# Altium footprint library con-molex-micro-fit-3_0.PCBLIB: 194 footprints (part 12 of 13)
Each footprint in its own frame and in the unit in brackets; x right, y up, seen from the top. Pads: shape width x height; smd on the part's side, far side on the other; paste and mask are expansions set on the pad; w line width, h text height; cw(c..) or ccw(c..) is an arc to the next point about the centre after c.
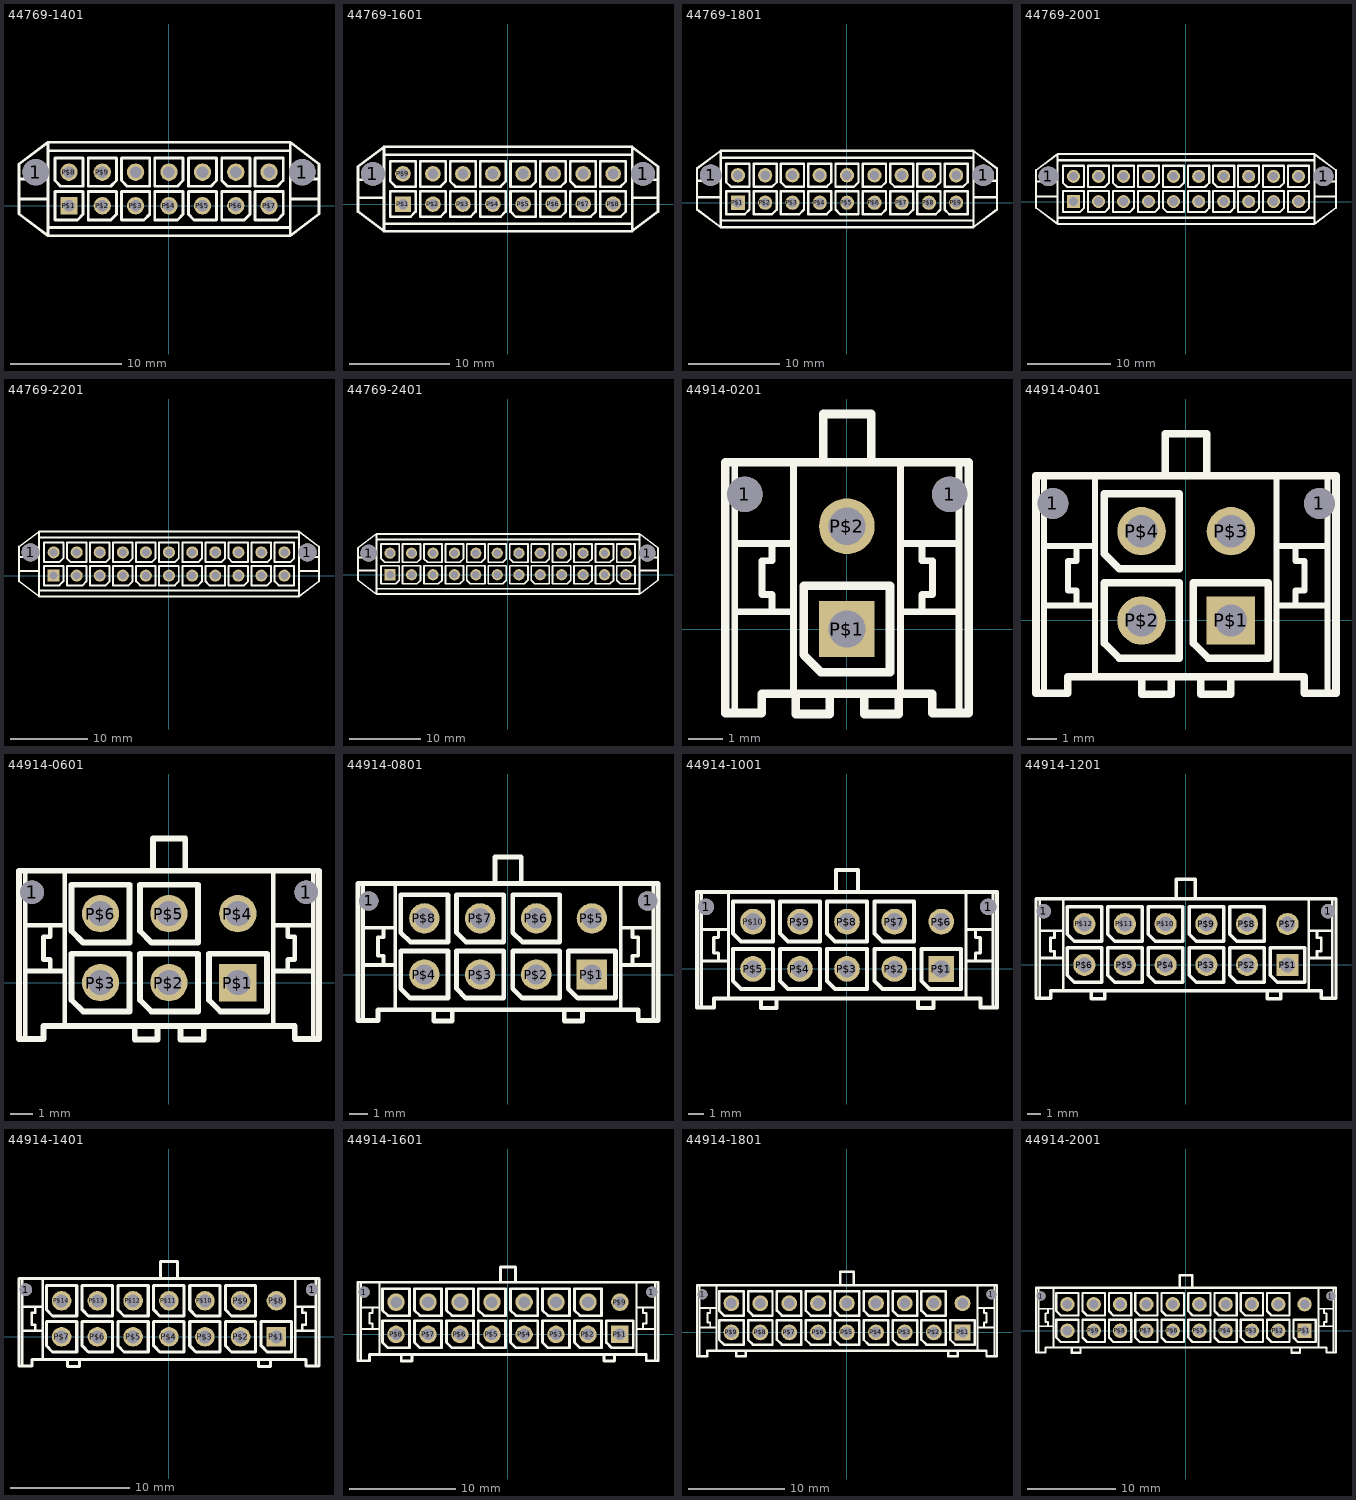
[diagram p11: the footprints below, top view; thin cyan lines are the x and y axes]

## 44769-1401 [mil]
pads (16):
  round 93 hole 93: 1(-472.44,119) 1(473,119)
  rect 61.5x61.5 hole 41: P$1(-354.33,0)
  round 61.5 hole 41: P$2(-236.22,0) P$3(-118.11,0) P$4(0,0) P$5(119,0) P$6(237,0) P$7(355,0) P$8(-354.33,119) P$9(-236.22,119) P$10(-118.11,119) P$11(0,119) P$12(119,119) P$13(237,119) P$14(355,119)
Top Overlay:
  lines w10: -531.5,24 -531.5,-29.53 -429.13,-106.3 ; -531.5,24 -531.5,95 ; -531.5,24 -429.13,24 ; -531.5,95 -531.5,148 -429.13,225 ; -531.5,95 -429.13,95 ; -429.13,-106.3 430,-106.3 ; -429.13,-106.3 -429.13,-76.77 ; -429.13,-76.77 -429.13,24 ; -429.13,-76.77 430,-76.77 ; -429.13,24 -429.13,95 ; -429.13,95 -429.13,195 ; -429.13,195 -429.13,225 ; -429.13,195 430,195 ; -429.13,225 430,225 ; 430,-106.3 532,-29.53 532,24 ; 430,-106.3 430,-76.77 ; 430,-76.77 430,24 ; 430,24 430,95 ; 430,24 532,24 ; 430,95 430,195 ; 430,95 532,95 ; 430,195 430,225 ; 430,225 532,148 532,95 ; 532,24 532,95 ; -404.33,-50 -404.33,50 -304.33,50 -304.33,-30 -324.33,-50 -404.33,-50 ; -404.33,89 -404.33,169 -304.33,169 -304.33,69 -384.33,69 -404.33,89 ; -286.22,-50 -286.22,50 -186.22,50 -186.22,-30 -206.22,-50 -286.22,-50 ; -286.22,69 -286.22,169 -186.22,169 -186.22,89 -206.22,69 -286.22,69 ; -168.11,-50 -168.11,50 -68.11,50 -68.11,-30 -88.11,-50 -168.11,-50 ; -168.11,89 -168.11,169 -68.11,169 -68.11,69 -148.11,69 -168.11,89 ; -50,-50 -50,50 50,50 50,-30 30,-50 -50,-50 ; -50,69 -50,169 50,169 50,89 30,69 -50,69 ; 69,-30 69,50 169,50 169,-50 89,-50 69,-30 ; 69,69 69,169 169,169 169,89 149,69 69,69 ; 187,-50 187,50 287,50 287,-30 267,-50 187,-50 ; 187,89 187,169 287,169 287,69 207,69 187,89 ; 305,-50 305,50 405,50 405,-30 385,-50 305,-50 ; 305,69 305,169 405,169 405,89 385,69 305,69

## 44769-1601 [mil]
pads (18):
  round 93 hole 93: 1(-531.5,119) 1(532,119)
  rect 61.5x61.5 hole 41: P$1(-413.39,0)
  round 61.5 hole 41: P$2(-295.28,0) P$3(-177.17,0) P$4(-59.06,0) P$5(60,0) P$6(178,0) P$7(296,0) P$8(414,0) P$9(-413.39,119) P$10(-295.28,119) P$11(-177.17,119) P$12(-59.06,119) P$13(60,119) P$14(178,119) P$15(296,119) P$16(414,119)
Top Overlay:
  lines w10: -590.55,24 -590.55,-29.53 -488.19,-106.3 ; -590.55,24 -590.55,95 ; -590.55,24 -488.19,24 ; -590.55,95 -590.55,148 -488.19,225 ; -590.55,95 -488.19,95 ; -488.19,-106.3 489,-106.3 ; -488.19,-106.3 -488.19,-76.77 ; -488.19,-76.77 -488.19,24 ; -488.19,-76.77 489,-76.77 ; -488.19,24 -488.19,95 ; -488.19,95 -488.19,195 ; -488.19,195 -488.19,225 ; -488.19,195 489,195 ; -488.19,225 489,225 ; 489,-106.3 591,-29.53 591,24 ; 489,-106.3 489,-76.77 ; 489,-76.77 489,24 ; 489,24 489,95 ; 489,24 591,24 ; 489,95 489,195 ; 489,95 591,95 ; 489,195 489,225 ; 489,225 591,148 591,95 ; 591,24 591,95 ; -463.39,-50 -463.39,50 -363.39,50 -363.39,-30 -383.39,-50 -463.39,-50 ; -463.39,89 -463.39,169 -363.39,169 -363.39,69 -443.39,69 -463.39,89 ; -345.28,-50 -345.28,50 -245.28,50 -245.28,-30 -265.28,-50 -345.28,-50 ; -345.28,69 -345.28,169 -245.28,169 -245.28,89 -265.28,69 -345.28,69 ; -227.17,-50 -227.17,50 -127.17,50 -127.17,-30 -147.17,-50 -227.17,-50 ; -227.17,89 -227.17,169 -127.17,169 -127.17,69 -207.17,69 -227.17,89 ; -109.06,-50 -109.06,50 -9.06,50 -9.06,-30 -29.06,-50 -109.06,-50 ; -109.06,69 -109.06,169 -9.06,169 -9.06,89 -29.06,69 -109.06,69 ; 10,-30 10,50 110,50 110,-50 30,-50 10,-30 ; 10,69 10,169 110,169 110,89 90,69 10,69 ; 128,-50 128,50 228,50 228,-30 208,-50 128,-50 ; 128,69 128,169 228,169 228,89 208,69 128,69 ; 246,-50 246,50 346,50 346,-30 326,-50 246,-50 ; 246,89 246,169 346,169 346,69 266,69 246,89 ; 364,-50 364,50 464,50 464,-30 444,-50 364,-50 ; 364,69 364,169 464,169 464,89 444,69 364,69

## 44769-1801 [mil]
pads (20):
  round 93 hole 93: 1(-590.55,119) 1(591,119)
  rect 61.5x61.5 hole 41: P$1(-472.44,0)
  round 61.5 hole 41: P$2(-354.33,0) P$3(-236.22,0) P$4(-118.11,0) P$5(0,0) P$6(119,0) P$7(237,0) P$8(355,0) P$9(473,0) P$10(-472.44,119) P$11(-354.33,119) P$12(-236.22,119) P$13(-118.11,119) P$14(0,119) P$15(119,119) P$16(237,119) P$17(355,119) P$18(473,119)
Top Overlay:
  lines w10: -649.61,24 -649.61,-29.53 -547.24,-106.3 ; -649.61,24 -649.61,95 ; -649.61,24 -547.24,24 ; -649.61,95 -649.61,148 -547.24,225 ; -649.61,95 -547.24,95 ; -547.24,-106.3 548,-106.3 ; -547.24,-106.3 -547.24,-76.77 ; -547.24,-76.77 -547.24,24 ; -547.24,-76.77 548,-76.77 ; -547.24,24 -547.24,95 ; -547.24,95 -547.24,195 ; -547.24,195 -547.24,225 ; -547.24,195 548,195 ; -547.24,225 548,225 ; 548,-106.3 650,-29.53 650,24 ; 548,-106.3 548,-76.77 ; 548,-76.77 548,24 ; 548,24 548,95 ; 548,24 650,24 ; 548,95 548,195 ; 548,95 650,95 ; 548,195 548,225 ; 548,225 650,148 650,95 ; 650,24 650,95 ; -522.44,-50 -522.44,50 -422.44,50 -422.44,-30 -442.44,-50 -522.44,-50 ; -522.44,89 -522.44,169 -422.44,169 -422.44,69 -502.44,69 -522.44,89 ; -404.33,-50 -404.33,50 -304.33,50 -304.33,-30 -324.33,-50 -404.33,-50 ; -404.33,69 -404.33,169 -304.33,169 -304.33,89 -324.33,69 -404.33,69 ; -286.22,-50 -286.22,50 -186.22,50 -186.22,-30 -206.22,-50 -286.22,-50 ; -286.22,89 -286.22,169 -186.22,169 -186.22,69 -266.22,69 -286.22,89 ; -168.11,-50 -168.11,50 -68.11,50 -68.11,-30 -88.11,-50 -168.11,-50 ; -168.11,69 -168.11,169 -68.11,169 -68.11,89 -88.11,69 -168.11,69 ; -50,-30 -50,50 50,50 50,-50 -30,-50 -50,-30 ; -50,69 -50,169 50,169 50,89 30,69 -50,69 ; 69,-50 69,50 169,50 169,-30 149,-50 69,-50 ; 69,69 69,169 169,169 169,89 149,69 69,69 ; 187,-50 187,50 287,50 287,-30 267,-50 187,-50 ; 187,89 187,169 287,169 287,69 207,69 187,89 ; 305,-50 305,50 405,50 405,-30 385,-50 305,-50 ; 305,69 305,169 405,169 405,89 385,69 305,69 ; 423,-30 423,50 523,50 523,-50 443,-50 423,-30 ; 423,69 423,169 523,169 523,89 503,69 423,69

## 44769-2001 [mil]
pads (22):
  round 93 hole 93: 1(-649.61,119) 1(650,119)
  rect 61.5x61.5 hole 41: P$1(-531.5,0)
  round 61.5 hole 41: P$2(-413.39,0) P$3(-295.28,0) P$4(-177.17,0) P$5(-59.06,0) P$6(60,0) P$7(178,0) P$8(296,0) P$9(414,0) P$10(532,0) P$11(-531.5,119) P$12(-413.39,119) P$13(-295.28,119) P$14(-177.17,119) P$15(-59.06,119) P$16(60,119) P$17(178,119) P$18(296,119) P$19(414,119) P$20(532,119)
Top Overlay:
  lines w10: -708.66,24 -708.66,-29.53 -606.3,-106.3 ; -708.66,24 -708.66,95 ; -708.66,24 -606.3,24 ; -708.66,95 -708.66,148 -606.3,225 ; -708.66,95 -606.3,95 ; -606.3,-106.3 607,-106.3 ; -606.3,-106.3 -606.3,-76.77 ; -606.3,-76.77 -606.3,24 ; -606.3,-76.77 607,-76.77 ; -606.3,24 -606.3,95 ; -606.3,95 -606.3,195 ; -606.3,195 -606.3,225 ; -606.3,195 607,195 ; -606.3,225 607,225 ; 607,-106.3 709,-29.53 709,24 ; 607,-106.3 607,-76.77 ; 607,-76.77 607,24 ; 607,24 607,95 ; 607,24 709,24 ; 607,95 607,195 ; 607,95 709,95 ; 607,195 607,225 ; 607,225 709,148 709,95 ; 709,24 709,95 ; -581.5,-50 -581.5,50 -481.5,50 -481.5,-30 -501.5,-50 -581.5,-50 ; -581.5,89 -581.5,169 -481.5,169 -481.5,69 -561.5,69 -581.5,89 ; -463.39,-50 -463.39,50 -363.39,50 -363.39,-30 -383.39,-50 -463.39,-50 ; -463.39,69 -463.39,169 -363.39,169 -363.39,89 -383.39,69 -463.39,69 ; -345.28,-50 -345.28,50 -245.28,50 -245.28,-30 -265.28,-50 -345.28,-50 ; -345.28,89 -345.28,169 -245.28,169 -245.28,69 -325.28,69 -345.28,89 ; -227.17,-50 -227.17,50 -127.17,50 -127.17,-30 -147.17,-50 -227.17,-50 ; -227.17,69 -227.17,169 -127.17,169 -127.17,89 -147.17,69 -227.17,69 ; -109.06,-30 -109.06,50 -9.06,50 -9.06,-50 -89.06,-50 -109.06,-30 ; -109.06,69 -109.06,169 -9.06,169 -9.06,89 -29.06,69 -109.06,69 ; 10,-50 10,50 110,50 110,-30 90,-50 10,-50 ; 10,69 10,169 110,169 110,89 90,69 10,69 ; 128,-50 128,50 228,50 228,-30 208,-50 128,-50 ; 128,89 128,169 228,169 228,69 148,69 128,89 ; 246,-50 246,50 346,50 346,-30 326,-50 246,-50 ; 246,69 246,169 346,169 346,89 326,69 246,69 ; 364,-50 364,50 464,50 464,-30 444,-50 364,-50 ; 364,69 364,169 464,169 464,89 444,69 364,69 ; 482,-50 482,50 582,50 582,-30 562,-50 482,-50 ; 482,69 482,169 582,169 582,89 562,69 482,69

## 44769-2201 [mil]
pads (24):
  round 93 hole 93: 1(-708.66,119) 1(709,119)
  rect 61.5x61.5 hole 41: P$1(-590.55,0)
  round 61.5 hole 41: P$2(-472.44,0) P$3(-354.33,0) P$4(-236.22,0) P$5(-118.11,0) P$6(0,0) P$7(119,0) P$8(237,0) P$9(355,0) P$10(473,0) P$11(591,0) P$12(-590.55,119) P$13(-472.44,119) P$14(-354.33,119) P$15(-236.22,119) P$16(-118.11,119) P$17(0,119) P$18(119,119) P$19(237,119) P$20(355,119) P$21(473,119) P$22(591,119)
Top Overlay:
  lines w10: -767.72,24 -767.72,-29.53 -665.35,-106.3 ; -767.72,24 -767.72,95 ; -767.72,24 -665.35,24 ; -767.72,95 -767.72,148 -665.35,225 ; -767.72,95 -665.35,95 ; -665.35,-106.3 666,-106.3 ; -665.35,-106.3 -665.35,-76.77 ; -665.35,-76.77 -665.35,24 ; -665.35,-76.77 666,-76.77 ; -665.35,24 -665.35,95 ; -665.35,95 -665.35,195 ; -665.35,195 -665.35,225 ; -665.35,195 666,195 ; -665.35,225 666,225 ; 666,-106.3 768,-29.53 768,24 ; 666,-106.3 666,-76.77 ; 666,-76.77 666,24 ; 666,24 666,95 ; 666,24 768,24 ; 666,95 666,195 ; 666,95 768,95 ; 666,195 666,225 ; 666,225 768,148 768,95 ; 768,24 768,95 ; -640.55,-50 -640.55,50 -540.55,50 -540.55,-30 -560.55,-50 -640.55,-50 ; -640.55,69 -640.55,169 -540.55,169 -540.55,89 -560.55,69 -640.55,69 ; -522.44,-50 -522.44,50 -422.44,50 -422.44,-30 -442.44,-50 -522.44,-50 ; -522.44,89 -522.44,169 -422.44,169 -422.44,69 -502.44,69 -522.44,89 ; -404.33,-50 -404.33,50 -304.33,50 -304.33,-30 -324.33,-50 -404.33,-50 ; -404.33,69 -404.33,169 -304.33,169 -304.33,89 -324.33,69 -404.33,69 ; -286.22,-50 -286.22,50 -186.22,50 -186.22,-30 -206.22,-50 -286.22,-50 ; -286.22,69 -286.22,169 -186.22,169 -186.22,89 -206.22,69 -286.22,69 ; -168.11,-30 -168.11,50 -68.11,50 -68.11,-50 -148.11,-50 -168.11,-30 ; -168.11,69 -168.11,169 -68.11,169 -68.11,89 -88.11,69 -168.11,69 ; -50,-50 -50,50 50,50 50,-30 30,-50 -50,-50 ; -50,69 -50,169 50,169 50,89 30,69 -50,69 ; 69,-50 69,50 169,50 169,-30 149,-50 69,-50 ; 69,69 69,169 169,169 169,89 149,69 69,69 ; 187,-30 187,50 287,50 287,-50 207,-50 187,-30 ; 187,69 187,169 287,169 287,89 267,69 187,69 ; 305,-50 305,50 405,50 405,-30 385,-50 305,-50 ; 305,89 305,169 405,169 405,69 325,69 305,89 ; 423,-50 423,50 523,50 523,-30 503,-50 423,-50 ; 423,69 423,169 523,169 523,89 503,69 423,69 ; 541,-30 541,50 641,50 641,-50 561,-50 541,-30 ; 541,69 541,169 641,169 641,89 621,69 541,69

## 44769-2401 [mil]
pads (26):
  round 93 hole 93: 1(-767.72,119) 1(768,119)
  rect 61.5x61.5 hole 41: P$1(-649.61,0)
  round 61.5 hole 41: P$2(-531.5,0) P$3(-413.39,0) P$4(-295.28,0) P$5(-177.17,0) P$6(-59.06,0) P$7(60,0) P$8(178,0) P$9(296,0) P$10(414,0) P$11(532,0) P$12(650,0) P$13(-649.61,119) P$14(-531.5,119) P$15(-413.39,119) P$16(-295.28,119) P$17(-177.17,119) P$18(-59.06,119) P$19(60,119) P$20(178,119) P$21(296,119) P$22(414,119) P$23(532,119) P$24(650,119)
Top Overlay:
  lines w10: -826.77,24 -826.77,-29.53 -724.41,-106.3 ; -826.77,24 -826.77,95 ; -826.77,24 -724.41,24 ; -826.77,95 -826.77,148 -724.41,225 ; -826.77,95 -724.41,95 ; -724.41,-106.3 725,-106.3 ; -724.41,-106.3 -724.41,-76.77 ; -724.41,-76.77 -724.41,24 ; -724.41,-76.77 725,-76.77 ; -724.41,24 -724.41,95 ; -724.41,95 -724.41,195 ; -724.41,195 -724.41,225 ; -724.41,195 725,195 ; -724.41,225 725,225 ; 725,-106.3 827,-29.53 827,24 ; 725,-106.3 725,-76.77 ; 725,-76.77 725,24 ; 725,24 725,95 ; 725,24 827,24 ; 725,95 725,195 ; 725,95 827,95 ; 725,195 725,225 ; 725,225 827,148 827,95 ; 827,24 827,95 ; -699.61,-50 -699.61,50 -599.61,50 -599.61,-30 -619.61,-50 -699.61,-50 ; -699.61,89 -699.61,169 -599.61,169 -599.61,69 -679.61,69 -699.61,89 ; -581.5,-50 -581.5,50 -481.5,50 -481.5,-30 -501.5,-50 -581.5,-50 ; -581.5,69 -581.5,169 -481.5,169 -481.5,89 -501.5,69 -581.5,69 ; -463.39,-50 -463.39,50 -363.39,50 -363.39,-30 -383.39,-50 -463.39,-50 ; -463.39,89 -463.39,169 -363.39,169 -363.39,69 -443.39,69 -463.39,89 ; -345.28,-50 -345.28,50 -245.28,50 -245.28,-30 -265.28,-50 -345.28,-50 ; -345.28,69 -345.28,169 -245.28,169 -245.28,89 -265.28,69 -345.28,69 ; -227.17,-30 -227.17,50 -127.17,50 -127.17,-50 -207.17,-50 -227.17,-30 ; -227.17,69 -227.17,169 -127.17,169 -127.17,89 -147.17,69 -227.17,69 ; -109.06,-50 -109.06,50 -9.06,50 -9.06,-30 -29.06,-50 -109.06,-50 ; -109.06,69 -109.06,169 -9.06,169 -9.06,89 -29.06,69 -109.06,69 ; 10,-50 10,50 110,50 110,-30 90,-50 10,-50 ; 10,89 10,169 110,169 110,69 30,69 10,89 ; 128,-30 128,50 228,50 228,-50 148,-50 128,-30 ; 128,69 128,169 228,169 228,89 208,69 128,69 ; 246,-50 246,50 346,50 346,-30 326,-50 246,-50 ; 246,69 246,169 346,169 346,89 326,69 246,69 ; 364,-50 364,50 464,50 464,-30 444,-50 364,-50 ; 364,69 364,169 464,169 464,89 444,69 364,69 ; 482,-50 482,50 582,50 582,-30 562,-50 482,-50 ; 482,69 482,169 582,169 582,89 562,69 482,69 ; 600,-30 600,50 700,50 700,-50 620,-50 600,-30 ; 600,69 600,169 700,169 700,89 680,69 600,69

## 44914-0201 [mil]
pads (4):
  round 41 hole 41: 1(-118.11,156) 1(119,156)
  rect 64.5x64.5 hole 43: P$1(0,0)
  round 64.5 hole 43: P$2(0,119)
Top Overlay:
  lines w8: -129.92,-97.24 -129.92,20 ; -129.92,193 -129.92,99 ; -61.81,-74.8 -61.81,20 ; -61.81,193 -61.81,99 ; 62,-74.8 62,20 ; 62,193 62,99 ; 130,-97.24 130,20 ; 130,193 130,99 ; -129.92,20 -129.92,99 ; -129.92,20 -86.61,20 ; -129.92,99 -86.61,99 ; -86.61,20 -61.81,20 ; -86.61,20 -86.61,40 -98.43,40 -98.43,79 -86.61,79 -86.61,99 ; -86.61,99 -61.81,99 ; -61.81,20 -61.81,99 ; 62,20 62,99 ; 62,20 87,20 ; 62,99 87,99 ; 87,20 130,20 ; 87,20 87,40 99,40 99,79 87,79 87,99 ; 87,99 130,99 ; 130,20 130,99
  lines w10: -59.06,-74.8 -19.68,-74.8 ; -59.06,-74.8 -61.81,-74.8 -98.43,-74.8 -98.43,-97.24 -129.92,-97.24 -140.75,-97.24 -140.75,193 -129.92,193 -61.81,193 -27.56,193 ; -59.06,-74.8 -59.06,-98.43 -19.68,-98.43 -19.68,-74.8 ; -27.56,193 28,193 ; -27.56,193 -27.56,249 28,249 28,193 ; -19.68,-74.8 20,-74.8 ; 20,-74.8 60,-74.8 ; 20,-74.8 20,-98.43 60,-98.43 60,-74.8 ; 28,193 62,193 130,193 141,193 141,-97.24 130,-97.24 99,-97.24 99,-74.8 62,-74.8 60,-74.8 ; -50,-30 -50,50 50,50 50,-50 -30,-50 -50,-30
Bottom Overlay:
  lines w10: -50,69 -50,169 50,169 50,89 30,69 -50,69

## 44914-0401 [mil]
pads (6):
  round 41 hole 41: 1(-177.17,156) 1(178,156)
  rect 64.5x64.5 hole 43: P$1(60,0)
  round 64.5 hole 43: P$2(-59.06,0) P$3(60,119) P$4(-59.06,119)
Top Overlay:
  lines w8: -188.98,-97.24 -188.98,20 ; -188.98,193 -188.98,99 ; -120.87,-74.8 -120.87,20 ; -120.87,193 -120.87,99 ; 121,-74.8 121,20 ; 121,193 121,99 ; 189,-97.24 189,20 ; 189,193 189,99 ; -188.98,20 -188.98,99 ; -188.98,20 -145.67,20 ; -188.98,99 -145.67,99 ; -145.67,20 -120.87,20 ; -145.67,20 -145.67,40 -157.48,40 -157.48,79 -145.67,79 -145.67,99 ; -145.67,99 -120.87,99 ; -120.87,20 -120.87,99 ; 121,20 121,99 ; 121,20 146,20 ; 121,99 146,99 ; 146,20 189,20 ; 146,20 146,40 158,40 158,79 146,79 146,99 ; 146,99 189,99 ; 189,20 189,99
  lines w10: -59.06,-74.8 -19.68,-74.8 ; -59.06,-74.8 -120.87,-74.8 -157.48,-74.8 -157.48,-97.24 -188.98,-97.24 -199.8,-97.24 -199.8,193 -188.98,193 -120.87,193 -27.56,193 ; -59.06,-74.8 -59.06,-98.43 -19.68,-98.43 -19.68,-74.8 ; -27.56,193 28,193 ; -27.56,193 -27.56,249 28,249 28,193 ; -19.68,-74.8 20,-74.8 ; 20,-74.8 60,-74.8 ; 20,-74.8 20,-98.43 60,-98.43 60,-74.8 ; 28,193 121,193 189,193 200,193 200,-97.24 189,-97.24 158,-97.24 158,-74.8 121,-74.8 60,-74.8 ; -109.06,-30 -109.06,50 -9.06,50 -9.06,-50 -89.06,-50 -109.06,-30 ; -109.06,89 -109.06,169 -9.06,169 -9.06,69 -89.06,69 -109.06,89 ; 10,-30 10,50 110,50 110,-50 30,-50 10,-30
Bottom Overlay:
  lines w10: 10,69 10,169 110,169 110,89 90,69 10,69

## 44914-0601 [mil]
pads (8):
  round 41 hole 41: 1(-236.22,156) 1(237,156)
  rect 64.5x64.5 hole 43: P$1(119,0)
  round 64.5 hole 43: P$2(0,0) P$3(-118.11,0) P$4(119,119) P$5(0,119) P$6(-118.11,119)
Top Overlay:
  lines w8: -248.03,-97.24 -248.03,-66.93 -248.03,-39.37 -248.03,20 ; -248.03,193 -248.03,158 -248.03,99 ; -179.92,-74.8 -179.92,-39.37 -179.92,20 ; -179.92,193 -179.92,158 -179.92,99 ; 180,-74.8 180,-39.37 180,20 ; 180,193 180,158 180,99 ; 249,-97.24 249,-66.93 249,-39.37 249,20 ; 249,193 249,158 249,99 ; -248.03,20 -248.03,99 ; -248.03,20 -204.72,20 ; -248.03,99 -204.72,99 ; -204.72,20 -179.92,20 ; -204.72,20 -204.72,40 -216.54,40 -216.54,79 -204.72,79 -204.72,99 ; -204.72,99 -179.92,99 ; -179.92,20 -179.92,99 ; 180,20 180,99 ; 180,20 205,20 ; 180,99 205,99 ; 205,20 249,20 ; 205,20 205,40 217,40 217,79 205,79 205,99 ; 205,99 249,99 ; 249,20 249,99
  lines w10: -59.06,-74.8 -19.68,-74.8 ; -59.06,-74.8 -179.92,-74.8 -216.54,-74.8 -216.54,-97.24 -248.03,-97.24 -258.86,-97.24 -258.86,193 -248.03,193 -179.92,193 -27.56,193 ; -59.06,-74.8 -59.06,-98.43 -19.68,-98.43 -19.68,-74.8 ; -27.56,193 28,193 ; -27.56,193 -27.56,249 28,249 28,193 ; -19.68,-74.8 20,-74.8 ; 20,-74.8 60,-74.8 ; 20,-74.8 20,-98.43 60,-98.43 60,-74.8 ; 28,193 180,193 249,193 259,193 259,-97.24 249,-97.24 217,-97.24 217,-74.8 180,-74.8 60,-74.8 ; -168.11,-30 -168.11,50 -68.11,50 -68.11,-50 -148.11,-50 -168.11,-30 ; -168.11,89 -168.11,169 -68.11,169 -68.11,69 -148.11,69 -168.11,89 ; -50,-30 -50,50 50,50 50,-50 -30,-50 -50,-30 ; -50,89 -50,169 50,169 50,69 -30,69 -50,89 ; 69,-30 69,50 169,50 169,-50 89,-50 69,-30
Bottom Overlay:
  lines w10: 69,69 69,169 169,169 169,89 149,69 69,69

## 44914-0801 [mil]
pads (10):
  round 41 hole 41: 1(-295.28,156) 1(296,156)
  rect 64.5x64.5 hole 43: P$1(178,0)
  round 64.5 hole 43: P$2(60,0) P$3(-59.06,0) P$4(-177.17,0) P$5(178,119) P$6(60,119) P$7(-59.06,119) P$8(-177.17,119)
Top Overlay:
  lines w8: -307.09,-97.24 -307.09,20 ; -307.09,193 -307.09,99 ; -238.98,-74.8 -238.98,20 ; -238.98,193 -238.98,99 ; 239,-74.8 239,20 ; 239,193 239,99 ; 308,-97.24 308,20 ; 308,193 308,99 ; -307.09,20 -307.09,99 ; -307.09,20 -263.78,20 ; -307.09,99 -263.78,99 ; -263.78,20 -238.98,20 ; -263.78,20 -263.78,40 -275.59,40 -275.59,79 -263.78,79 -263.78,99 ; -263.78,99 -238.98,99 ; -238.98,20 -238.98,99 ; 239,20 239,99 ; 239,20 264,20 ; 239,99 264,99 ; 264,20 308,20 ; 264,20 264,40 276,40 276,79 264,79 264,99 ; 264,99 308,99 ; 308,20 308,99
  lines w10: -157.48,-74.8 -118.11,-74.8 ; -157.48,-74.8 -238.98,-74.8 -275.59,-74.8 -275.59,-97.24 -307.09,-97.24 -317.91,-97.24 -317.91,193 -307.09,193 -238.98,193 -27.56,193 ; -157.48,-74.8 -157.48,-98.43 -118.11,-98.43 -118.11,-74.8 ; -118.11,-74.8 119,-74.8 ; -27.56,193 28,193 ; -27.56,193 -27.56,249 28,249 28,193 ; 28,193 239,193 308,193 318,193 318,-97.24 308,-97.24 276,-97.24 276,-74.8 239,-74.8 158,-74.8 ; 119,-74.8 158,-74.8 ; 119,-74.8 119,-98.43 158,-98.43 158,-74.8 ; -227.17,-30 -227.17,50 -127.17,50 -127.17,-50 -207.17,-50 -227.17,-30 ; -227.17,89 -227.17,169 -127.17,169 -127.17,69 -207.17,69 -227.17,89 ; -109.06,-30 -109.06,50 -9.06,50 -9.06,-50 -89.06,-50 -109.06,-30 ; -109.06,89 -109.06,169 -9.06,169 -9.06,69 -89.06,69 -109.06,89 ; 10,-30 10,50 110,50 110,-50 30,-50 10,-30 ; 10,89 10,169 110,169 110,69 30,69 10,89 ; 128,-30 128,50 228,50 228,-50 148,-50 128,-30
Bottom Overlay:
  lines w10: 128,69 128,169 228,169 228,89 208,69 128,69

## 44914-1001 [mil]
pads (12):
  round 41 hole 41: 1(-354.33,156) 1(355,156)
  rect 64.5x64.5 hole 43: P$1(237,0)
  round 64.5 hole 43: P$2(119,0) P$3(0,0) P$4(-118.11,0) P$5(-236.22,0) P$6(237,119) P$7(119,119) P$8(0,119) P$9(-118.11,119) P$10(-236.22,119)
Top Overlay:
  lines w8: -366.14,-97.24 -366.14,20 ; -366.14,193 -366.14,99 ; -298.03,-74.8 -298.03,20 ; -298.03,193 -298.03,99 ; 299,-74.8 299,20 ; 299,193 299,99 ; 367,-97.24 367,20 ; 367,193 367,99 ; -366.14,20 -366.14,99 ; -366.14,20 -322.83,20 ; -366.14,99 -322.83,99 ; -322.83,20 -298.03,20 ; -322.83,20 -322.83,40 -334.65,40 -334.65,79 -322.83,79 -322.83,99 ; -322.83,99 -298.03,99 ; -298.03,20 -298.03,99 ; 299,20 299,99 ; 299,20 323,20 ; 299,99 323,99 ; 323,20 367,20 ; 323,20 323,40 335,40 335,79 323,79 323,99 ; 323,99 367,99 ; 367,20 367,99
  lines w10: -216.54,-74.8 -177.17,-74.8 ; -216.54,-74.8 -298.03,-74.8 -334.65,-74.8 -334.65,-97.24 -366.14,-97.24 -376.97,-97.24 -376.97,193 -366.14,193 -298.03,193 -27.56,193 ; -216.54,-74.8 -216.54,-98.43 -177.17,-98.43 -177.17,-74.8 ; -177.17,-74.8 178,-74.8 ; -27.56,193 28,193 ; -27.56,193 -27.56,249 28,249 28,193 ; 28,193 299,193 367,193 377,193 377,-97.24 367,-97.24 335,-97.24 335,-74.8 299,-74.8 217,-74.8 ; 178,-74.8 217,-74.8 ; 178,-74.8 178,-98.43 217,-98.43 217,-74.8 ; -286.22,-30 -286.22,50 -186.22,50 -186.22,-50 -266.22,-50 -286.22,-30 ; -286.22,89 -286.22,169 -186.22,169 -186.22,69 -266.22,69 -286.22,89 ; -168.11,-30 -168.11,50 -68.11,50 -68.11,-50 -148.11,-50 -168.11,-30 ; -168.11,89 -168.11,169 -68.11,169 -68.11,69 -148.11,69 -168.11,89 ; -50,-30 -50,50 50,50 50,-50 -30,-50 -50,-30 ; -50,89 -50,169 50,169 50,69 -30,69 -50,89 ; 69,-30 69,50 169,50 169,-50 89,-50 69,-30 ; 69,89 69,169 169,169 169,69 89,69 69,89 ; 187,-30 187,50 287,50 287,-50 207,-50 187,-30
Bottom Overlay:
  lines w10: 187,69 187,169 287,169 287,89 267,69 187,69

## 44914-1201 [mil]
pads (14):
  round 41 hole 41: 1(-413.39,156) 1(414,156)
  rect 64.5x64.5 hole 43: P$1(296,0)
  round 64.5 hole 43: P$2(178,0) P$3(60,0) P$4(-59.06,0) P$5(-177.17,0) P$6(-295.28,0) P$7(296,119) P$8(178,119) P$9(60,119) P$10(-59.06,119) P$11(-177.17,119) P$12(-295.28,119)
Top Overlay:
  lines w8: -425.2,-97.24 -425.2,20 ; -425.2,193 -425.2,99 ; -357.09,-74.8 -357.09,20 ; -357.09,193 -357.09,99 ; 358,-74.8 358,20 ; 358,193 358,99 ; 426,-97.24 426,20 ; 426,193 426,99 ; -425.2,20 -425.2,99 ; -425.2,20 -381.89,20 ; -425.2,99 -381.89,99 ; -381.89,20 -357.09,20 ; -381.89,20 -381.89,40 -393.7,40 -393.7,79 -381.89,79 -381.89,99 ; -381.89,99 -357.09,99 ; -357.09,20 -357.09,99 ; 358,20 358,99 ; 358,20 382,20 ; 358,99 382,99 ; 382,20 426,20 ; 382,20 382,40 394,40 394,79 382,79 382,99 ; 382,99 426,99 ; 426,20 426,99
  lines w10: -275.59,-74.8 -236.22,-74.8 ; -275.59,-74.8 -357.09,-74.8 -393.7,-74.8 -393.7,-97.24 -425.2,-97.24 -436.02,-97.24 -436.02,193 -425.2,193 -357.09,193 -27.56,193 ; -275.59,-74.8 -275.59,-98.43 -236.22,-98.43 -236.22,-74.8 ; -236.22,-74.8 237,-74.8 ; -27.56,193 28,193 ; -27.56,193 -27.56,249 28,249 28,193 ; 28,193 358,193 426,193 437,193 437,-97.24 426,-97.24 394,-97.24 394,-74.8 358,-74.8 276,-74.8 ; 237,-74.8 276,-74.8 ; 237,-74.8 237,-98.43 276,-98.43 276,-74.8 ; -345.28,-30 -345.28,50 -245.28,50 -245.28,-50 -325.28,-50 -345.28,-30 ; -345.28,89 -345.28,169 -245.28,169 -245.28,69 -325.28,69 -345.28,89 ; -227.17,-30 -227.17,50 -127.17,50 -127.17,-50 -207.17,-50 -227.17,-30 ; -227.17,89 -227.17,169 -127.17,169 -127.17,69 -207.17,69 -227.17,89 ; -109.06,-30 -109.06,50 -9.06,50 -9.06,-50 -89.06,-50 -109.06,-30 ; -109.06,89 -109.06,169 -9.06,169 -9.06,69 -89.06,69 -109.06,89 ; 10,-30 10,50 110,50 110,-50 30,-50 10,-30 ; 10,89 10,169 110,169 110,69 30,69 10,89 ; 128,-30 128,50 228,50 228,-50 148,-50 128,-30 ; 128,89 128,169 228,169 228,69 148,69 128,89 ; 246,-30 246,50 346,50 346,-50 266,-50 246,-30
Bottom Overlay:
  lines w10: 246,69 246,169 346,169 346,89 326,69 246,69

## 44914-1401 [mil]
pads (16):
  round 41 hole 41: 1(-472.44,156) 1(473,156)
  rect 64.5x64.5 hole 43: P$1(355,0)
  round 64.5 hole 43: P$2(237,0) P$3(119,0) P$4(0,0) P$5(-118.11,0) P$6(-236.22,0) P$7(-354.33,0) P$8(355,119) P$9(237,119) P$10(119,119) P$11(0,119) P$12(-118.11,119) P$13(-236.22,119) P$14(-354.33,119)
Top Overlay:
  lines w8: -484.25,-97.24 -484.25,20 ; -484.25,193 -484.25,99 ; -416.14,-74.8 -416.14,20 ; -416.14,193 -416.14,99 ; 417,-74.8 417,20 ; 417,193 417,99 ; 485,-97.24 485,20 ; 485,193 485,99 ; -484.25,20 -484.25,99 ; -484.25,20 -440.94,20 ; -484.25,99 -440.94,99 ; -440.94,20 -416.14,20 ; -440.94,20 -440.94,40 -452.76,40 -452.76,79 -440.94,79 -440.94,99 ; -440.94,99 -416.14,99 ; -416.14,20 -416.14,99 ; 417,20 417,99 ; 417,20 441,20 ; 417,99 441,99 ; 441,20 485,20 ; 441,20 441,40 453,40 453,79 441,79 441,99 ; 441,99 485,99 ; 485,20 485,99
  lines w10: -334.65,-74.8 -295.28,-74.8 ; -334.65,-74.8 -416.14,-74.8 -452.76,-74.8 -452.76,-97.24 -484.25,-97.24 -495.08,-97.24 -495.08,193 -484.25,193 -416.14,193 -27.56,193 ; -334.65,-74.8 -334.65,-98.43 -295.28,-98.43 -295.28,-74.8 ; -295.28,-74.8 296,-74.8 ; -27.56,193 28,193 ; -27.56,193 -27.56,249 28,249 28,193 ; 28,193 417,193 485,193 496,193 496,-97.24 485,-97.24 453,-97.24 453,-74.8 417,-74.8 335,-74.8 ; 296,-74.8 335,-74.8 ; 296,-74.8 296,-98.43 335,-98.43 335,-74.8 ; -404.33,-30 -404.33,50 -304.33,50 -304.33,-50 -384.33,-50 -404.33,-30 ; -404.33,89 -404.33,169 -304.33,169 -304.33,69 -384.33,69 -404.33,89 ; -286.22,-30 -286.22,50 -186.22,50 -186.22,-50 -266.22,-50 -286.22,-30 ; -286.22,89 -286.22,169 -186.22,169 -186.22,69 -266.22,69 -286.22,89 ; -168.11,-30 -168.11,50 -68.11,50 -68.11,-50 -148.11,-50 -168.11,-30 ; -168.11,89 -168.11,169 -68.11,169 -68.11,69 -148.11,69 -168.11,89 ; -50,-30 -50,50 50,50 50,-50 -30,-50 -50,-30 ; -50,89 -50,169 50,169 50,69 -30,69 -50,89 ; 69,-30 69,50 169,50 169,-50 89,-50 69,-30 ; 69,89 69,169 169,169 169,69 89,69 69,89 ; 187,-30 187,50 287,50 287,-50 207,-50 187,-30 ; 187,89 187,169 287,169 287,69 207,69 187,89 ; 305,-30 305,50 405,50 405,-50 325,-50 305,-30
Bottom Overlay:
  lines w10: 305,69 305,169 405,169 405,89 385,69 305,69

## 44914-1601 [mil]
pads (18):
  round 41 hole 41: 1(-531.5,156) 1(532,156)
  rect 64.5x64.5 hole 43: P$1(414,0)
  round 64.5 hole 43: P$2(296,0) P$3(178,0) P$4(60,0) P$5(-59.06,0) P$6(-177.17,0) P$7(-295.28,0) P$8(-413.39,0) P$9(414,119) P$10(296,119) P$11(178,119) P$12(60,119) P$13(-59.06,119) P$14(-177.17,119) P$15(-295.28,119) P$16(-413.39,119)
Top Overlay:
  lines w8: -543.31,-97.24 -543.31,20 ; -543.31,193 -543.31,99 ; -475.2,-74.8 -475.2,20 ; -475.2,193 -475.2,99 ; 476,-74.8 476,20 ; 476,193 476,99 ; 544,-97.24 544,20 ; 544,193 544,99 ; -543.31,20 -543.31,99 ; -543.31,20 -500,20 ; -543.31,99 -500,99 ; -500,20 -475.2,20 ; -500,20 -500,40 -511.81,40 -511.81,79 -500,79 -500,99 ; -500,99 -475.2,99 ; -475.2,20 -475.2,99 ; 476,20 476,99 ; 476,20 500,20 ; 476,99 500,99 ; 500,20 544,20 ; 500,20 500,40 512,40 512,79 500,79 500,99 ; 500,99 544,99 ; 544,20 544,99
  lines w10: -393.7,-74.8 -354.33,-74.8 ; -393.7,-74.8 -475.2,-74.8 -511.81,-74.8 -511.81,-97.24 -543.31,-97.24 -554.13,-97.24 -554.13,193 -543.31,193 -475.2,193 -27.56,193 ; -393.7,-74.8 -393.7,-98.43 -354.33,-98.43 -354.33,-74.8 ; -354.33,-74.8 355,-74.8 ; -27.56,193 28,193 ; -27.56,193 -27.56,249 28,249 28,193 ; 28,193 476,193 544,193 555,193 555,-97.24 544,-97.24 512,-97.24 512,-74.8 476,-74.8 394,-74.8 ; 355,-74.8 394,-74.8 ; 355,-74.8 355,-98.43 394,-98.43 394,-74.8 ; -463.39,-30 -463.39,50 -363.39,50 -363.39,-50 -443.39,-50 -463.39,-30 ; -463.39,89 -463.39,169 -363.39,169 -363.39,69 -443.39,69 -463.39,89 ; -345.28,-30 -345.28,50 -245.28,50 -245.28,-50 -325.28,-50 -345.28,-30 ; -345.28,89 -345.28,169 -245.28,169 -245.28,69 -325.28,69 -345.28,89 ; -227.17,-30 -227.17,50 -127.17,50 -127.17,-50 -207.17,-50 -227.17,-30 ; -227.17,89 -227.17,169 -127.17,169 -127.17,69 -207.17,69 -227.17,89 ; -109.06,-30 -109.06,50 -9.06,50 -9.06,-50 -89.06,-50 -109.06,-30 ; -109.06,89 -109.06,169 -9.06,169 -9.06,69 -89.06,69 -109.06,89 ; 10,-30 10,50 110,50 110,-50 30,-50 10,-30 ; 10,89 10,169 110,169 110,69 30,69 10,89 ; 128,-30 128,50 228,50 228,-50 148,-50 128,-30 ; 128,89 128,169 228,169 228,69 148,69 128,89 ; 246,-30 246,50 346,50 346,-50 266,-50 246,-30 ; 246,89 246,169 346,169 346,69 266,69 246,89 ; 364,-30 364,50 464,50 464,-50 384,-50 364,-30
Bottom Overlay:
  lines w10: 364,69 364,169 464,169 464,89 444,69 364,69

## 44914-1801 [mil]
pads (20):
  round 41 hole 41: 1(-590.55,156) 1(591,156)
  rect 64.5x64.5 hole 43: P$1(473,0)
  round 64.5 hole 43: P$2(355,0) P$3(237,0) P$4(119,0) P$5(0,0) P$6(-118.11,0) P$7(-236.22,0) P$8(-354.33,0) P$9(-472.44,0) P$10(473,119) P$11(355,119) P$12(237,119) P$13(119,119) P$14(0,119) P$15(-118.11,119) P$16(-236.22,119) P$17(-354.33,119) P$18(-472.44,119)
Top Overlay:
  lines w8: -602.36,-97.24 -602.36,20 ; -602.36,193 -602.36,99 ; -534.25,-74.8 -534.25,20 ; -534.25,193 -534.25,99 ; 535,-74.8 535,20 ; 535,193 535,99 ; 603,-97.24 603,20 ; 603,193 603,99 ; -602.36,20 -602.36,99 ; -602.36,20 -559.06,20 ; -602.36,99 -559.06,99 ; -559.06,20 -534.25,20 ; -559.06,20 -559.06,40 -570.87,40 -570.87,79 -559.06,79 -559.06,99 ; -559.06,99 -534.25,99 ; -534.25,20 -534.25,99 ; 535,20 535,99 ; 535,20 560,20 ; 535,99 560,99 ; 560,20 603,20 ; 560,20 560,40 571,40 571,79 560,79 560,99 ; 560,99 603,99 ; 603,20 603,99
  lines w10: -452.76,-74.8 -413.39,-74.8 ; -452.76,-74.8 -534.25,-74.8 -570.87,-74.8 -570.87,-97.24 -602.36,-97.24 -613.19,-97.24 -613.19,193 -602.36,193 -534.25,193 -27.56,193 ; -452.76,-74.8 -452.76,-98.43 -413.39,-98.43 -413.39,-74.8 ; -413.39,-74.8 414,-74.8 ; -27.56,193 28,193 ; -27.56,193 -27.56,249 28,249 28,193 ; 28,193 535,193 603,193 614,193 614,-97.24 603,-97.24 571,-97.24 571,-74.8 535,-74.8 453,-74.8 ; 414,-74.8 453,-74.8 ; 414,-74.8 414,-98.43 453,-98.43 453,-74.8 ; -522.44,-30 -522.44,50 -422.44,50 -422.44,-50 -502.44,-50 -522.44,-30 ; -522.44,89 -522.44,169 -422.44,169 -422.44,69 -502.44,69 -522.44,89 ; -404.33,-30 -404.33,50 -304.33,50 -304.33,-50 -384.33,-50 -404.33,-30 ; -404.33,89 -404.33,169 -304.33,169 -304.33,69 -384.33,69 -404.33,89 ; -286.22,-30 -286.22,50 -186.22,50 -186.22,-50 -266.22,-50 -286.22,-30 ; -286.22,89 -286.22,169 -186.22,169 -186.22,69 -266.22,69 -286.22,89 ; -168.11,-30 -168.11,50 -68.11,50 -68.11,-50 -148.11,-50 -168.11,-30 ; -168.11,89 -168.11,169 -68.11,169 -68.11,69 -148.11,69 -168.11,89 ; -50,-30 -50,50 50,50 50,-50 -30,-50 -50,-30 ; -50,89 -50,169 50,169 50,69 -30,69 -50,89 ; 69,-30 69,50 169,50 169,-50 89,-50 69,-30 ; 69,89 69,169 169,169 169,69 89,69 69,89 ; 187,-30 187,50 287,50 287,-50 207,-50 187,-30 ; 187,89 187,169 287,169 287,69 207,69 187,89 ; 305,-30 305,50 405,50 405,-50 325,-50 305,-30 ; 305,89 305,169 405,169 405,69 325,69 305,89 ; 423,-30 423,50 523,50 523,-50 443,-50 423,-30
Bottom Overlay:
  lines w10: 423,69 423,169 523,169 523,89 503,69 423,69

## 44914-2001 [mil]
pads (22):
  round 41 hole 41: 1(-649.61,156) 1(650,156)
  rect 64.5x64.5 hole 43: P$1(532,0)
  round 64.5 hole 43: P$2(414,0) P$3(296,0) P$4(178,0) P$5(60,0) P$6(-59.06,0) P$7(-177.17,0) P$8(-295.28,0) P$9(-413.39,0) P$10(-531.5,0) P$11(532,119) P$12(414,119) P$13(296,119) P$14(178,119) P$15(60,119) P$16(-59.06,119) P$17(-177.17,119) P$18(-295.28,119) P$19(-413.39,119) P$20(-531.5,119)
Top Overlay:
  drawing of 156 lines, arcs and shapes, not listed
Bottom Overlay:
  lines w10: 482,69 482,169 582,169 582,89 562,69 482,69